# Altium footprint library PCB - LEADED - MISC - ST TO-263-5.PCBLIB: 1 footprints
Each footprint in its own frame and in the unit in brackets; x right, y up, seen from the top. Pads: shape width x height; smd on the part's side, far side on the other; paste and mask are expansions set on the pad; w line width, h text height; cw(c..) or ccw(c..) is an arc to the next point about the centre after c.
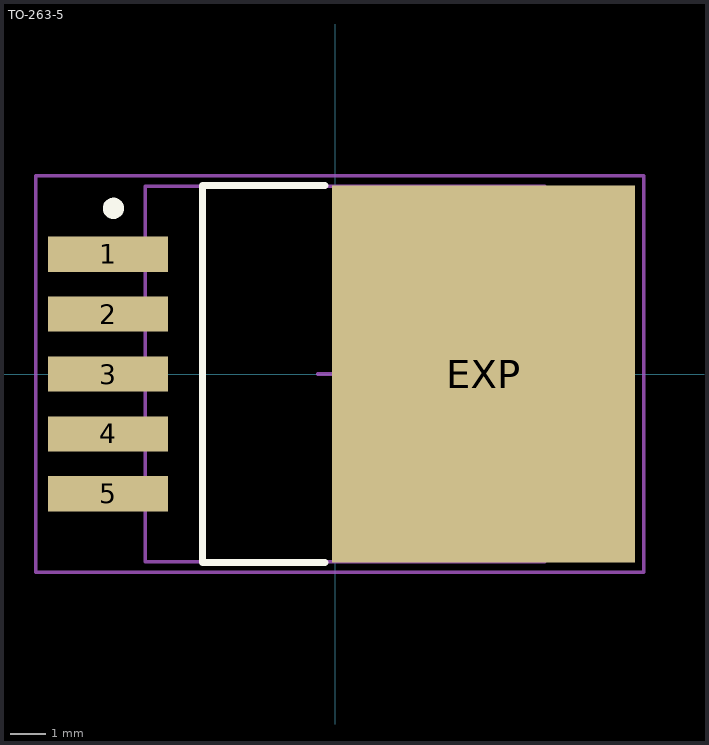
[diagram p0: the footprint, top view; thin cyan lines are the x and y axes]

## TO-263-5 [mm] "D2-PAK, 5-Pads, Body 8.77x8.70mm (max), IPC Medium Density"
height 4.83
pads (6):
  rect 3.4x1 smd: 1(-6.45,3.4) 2(-6.45,1.7) 3(-6.45,0) 4(-6.45,-1.7) 5(-6.45,-3.4)
  rect 8.6x10.7 smd: EXP(4.2,0)
Top Overlay:
  circle w0.3: c-6.3,4.7 r0.15
  lines w0.2: -0.3,-5.35 -3.775,-5.35 -3.775,5.35 -0.3,5.35
Mechanical 13:
  lines w0.1: -5.4,-5.325 -5.4,5.325 5.93,5.325 5.93,-5.325 -5.4,-5.325
Mechanical 15:
  lines w0.1: -0.5,0 0.5,0 ; 0,-0.5 0,0.5 ; -8.5,-5.625 -8.5,5.625 8.75,5.625 8.75,-5.625 -8.5,-5.625
3D body "DPAK170P1524X483-6N.step": height 4.83, standoff 0, extent -7.47,-5.325 7.77,5.325